# EAGLE library part TEMPERATURE-SENSOR-TH02(QFN24) (library Seeed-OPL-sensor)
314010015
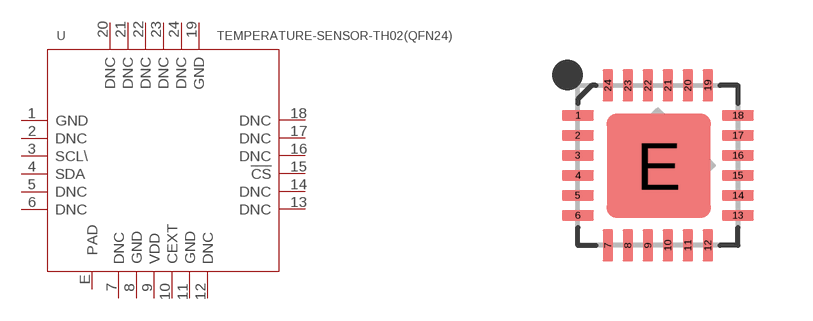
[diagram p23: symbol with the pads of QFN24G-0.5-4X4MM; footprint QFN24G-0.5-4X4MM]

Designator prefix U

## TEMPERATURE-SENSOR-TH02(QFN24) (MPN: TH02; VALUE: TH02)  [QFN24G-0.5-4X4MM]
1  GND  sup
2  DNC  nc
3  SCL\
4  SDA
5  DNC  nc
6  DNC  nc
7  DNC  nc
8  GND  sup
9  VDD  pwr
10  CEXT
11  GND  sup
12  DNC  sup
13  DNC  nc
14  DNC  nc
15  !CS
16  DNC  nc
17  DNC  nc
18  DNC  nc
19  GND  sup
20  DNC  nc
21  DNC  nc
22  DNC  nc
23  DNC  nc
24  DNC  nc
E  PAD

## Footprint QFN24G-0.5-4X4MM (pad centres in mm)
smd 0.8 x 0.26: 1 -2,1.25; 2 -2,0.75; 3 -2,0.25; 4 -2,-0.25; 5 -2,-0.75; 6 -2,-1.25; 13 2,-1.25; 14 2,-0.75; 15 2,-0.25; 16 2,0.25; 17 2,0.75; 18 2,1.25
smd 0.26 x 0.8: 7 -1.25,-2; 8 -0.75,-2; 9 -0.25,-2; 10 0.25,-2; 11 0.75,-2; 12 1.25,-2; 19 1.25,2; 20 0.75,2; 21 0.25,2; 22 -0.25,2; 23 -0.75,2; 24 -1.25,2
smd 2.6 x 2.6: E 0.02,-0.01